# Altium schematic symbol library Discrete_Filters_Beads_GOST.SchLib: 2 symbols
Pins are listed as number, name and electrical type; pins without a type are passive.

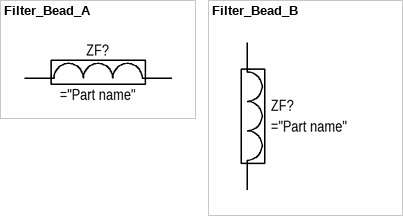
[diagram p0: symbols Filter_Bead_A to Filter_Bead_B]

## Filter_Bead_A
designator ZF?
pins: 1, 2

## Filter_Bead_B
designator ZF?
pins: 1, 2